# Altium footprint library Connector.PcbLib: 170 footprints (part 5 of 11)
Each footprint in its own frame and in the unit in brackets; x right, y up, seen from the top. Pads: shape width x height; smd on the part's side, far side on the other; paste and mask are expansions set on the pad; w line width, h text height; cw(c..) or ccw(c..) is an arc to the next point about the centre after c.
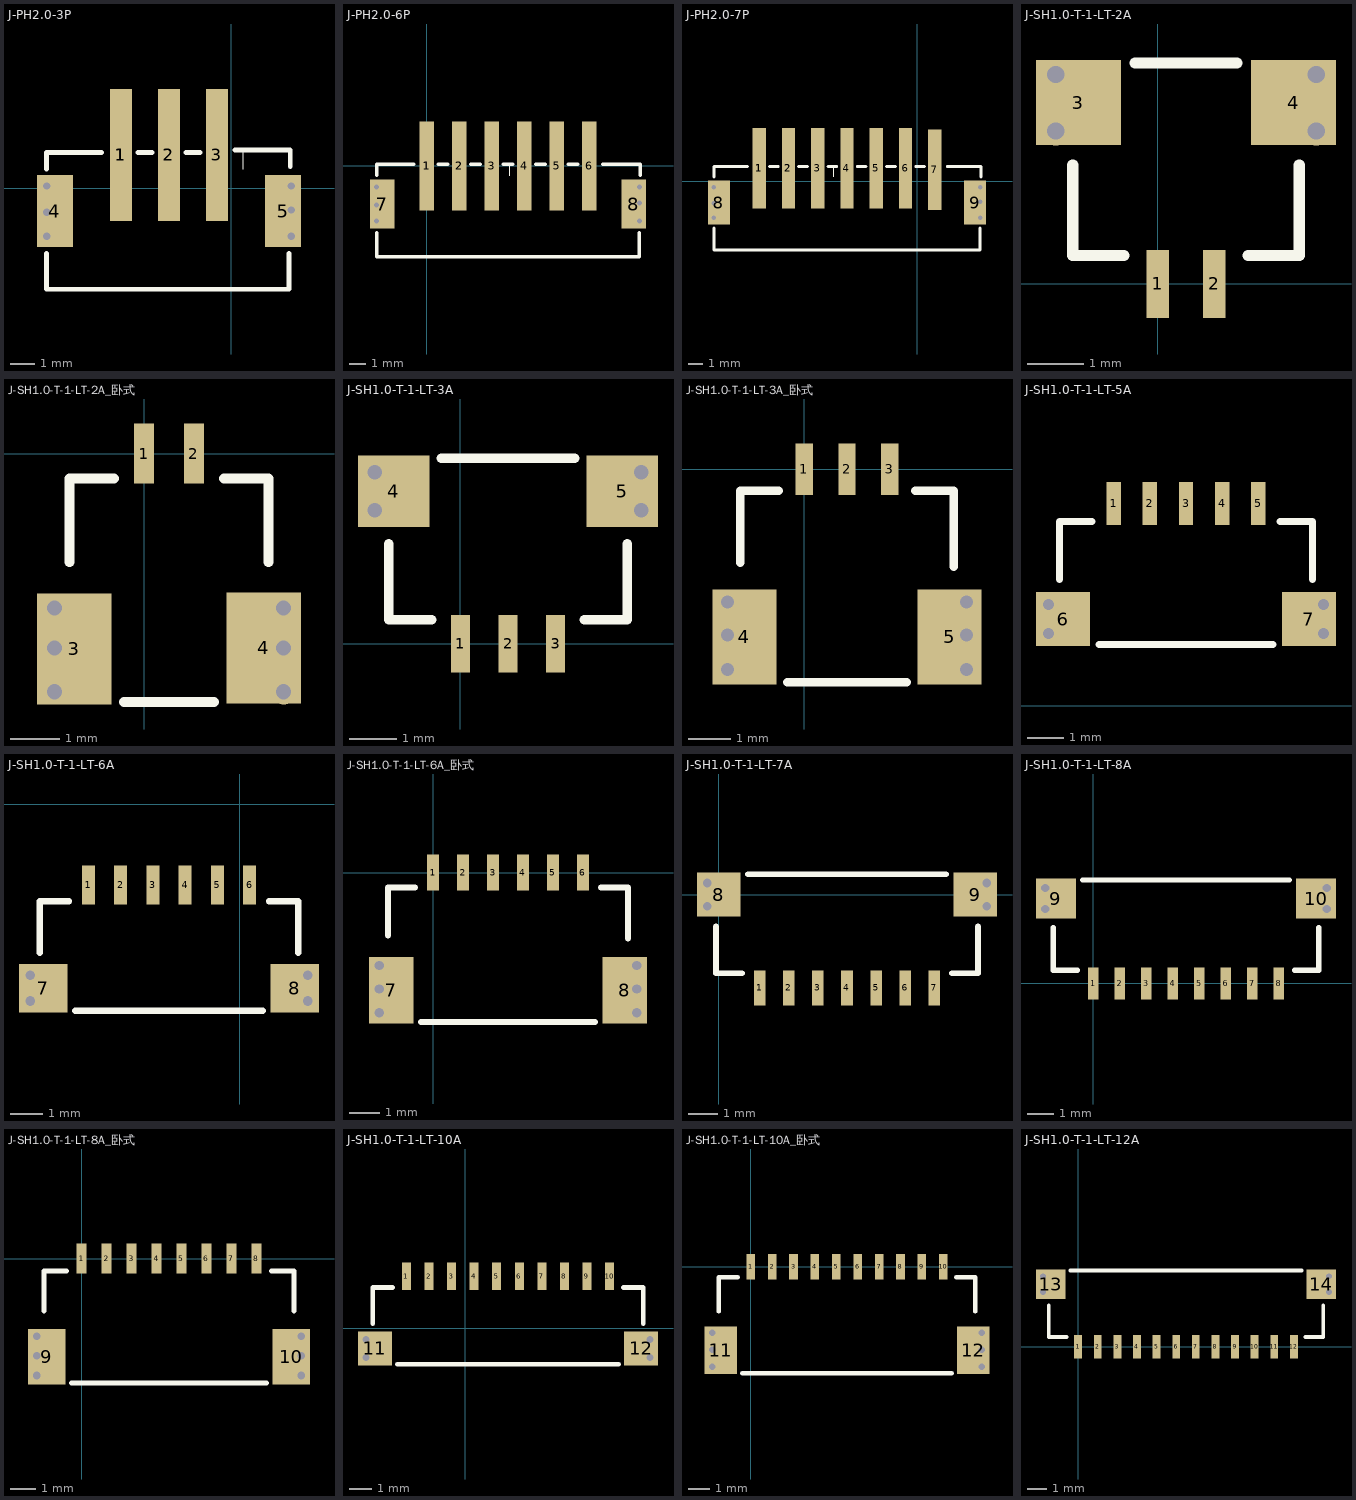
[diagram p4: the footprints below, top view; thin cyan lines are the x and y axes]

## J-PH2.0-3P [mm]
pads (7):
  rect 0.9x5.5 smd: 1(-4.6,1.4) 1(-4.6,1.4) 2(-2.6,1.4) 2(-2.6,1.4) 3(-0.6,1.4)
  rect 1.5x3 smd: 4(-7.35,-0.95) 5(2.15,-0.95)
via 2.5,0.1 diameter 0.508 hole 0.305
via 2.5,-2 diameter 0.508 hole 0.305
via 2.5,-0.9 diameter 0.508 hole 0.305
via -7.7,0.1 diameter 0.508 hole 0.305
via -7.7,-2 diameter 0.508 hole 0.305
via -7.7,-1 diameter 0.508 hole 0.305
Top Overlay:
  lines w0: 0.5,0.8 0.5,1.5
  lines w0.2: -7.7,-2.7 -7.7,-4.2 2.4,-4.2 2.4,-2.7 ; -7.7,0.8 -7.7,1.5 -5.4,1.5 ; -1.9,1.5 -1.3,1.5 ; 0.15,1.6 2.45,1.6 2.45,0.9 ; -3.9,1.5 -3.3,1.5 -3.9,1.5

## J-PH2.0-6P [mm]
pads (10):
  rect 0.9x5.5 smd: 1(0,0) 1(0,0) 2(2,0) 2(2,0) 3(4,0) 4(6,0) 5(8,0) 6(10,0)
  rect 1.5x3 smd: 7(-2.75,-2.35) 8(12.75,-2.35)
via 13.1,-2.3 diameter 0.508 hole 0.305
via 13.1,-1.3 diameter 0.508 hole 0.305
via 13.1,-3.4 diameter 0.508 hole 0.305
via -3.1,-1.3 diameter 0.508 hole 0.305
via -3.1,-3.4 diameter 0.508 hole 0.305
via -3.1,-2.4 diameter 0.508 hole 0.305
Top Overlay:
  lines w0: 5.1,-0.6 5.1,0.1
  lines w0.2: -3.1,-4.1 -3.1,-5.6 13.1,-5.6 13.1,-4.1 ; -3.1,-0.6 -3.1,0.1 -0.8,0.1 ; 2.7,0.1 3.3,0.1 ; 4.7,0.1 5.3,0.1 ; 6.7,0.1 7.3,0.1 ; 8.7,0.1 9.3,0.1 ; 10.85,0.1 13.15,0.1 13.15,-0.6 ; 0.7,0.1 1.3,0.1 0.7,0.1

## J-PH2.0-7P [mm]
pads (11):
  rect 0.9x5.5 smd: 1(-10.8,0.9) 1(-10.8,0.9) 2(-8.8,0.9) 2(-8.8,0.9) 3(-6.8,0.9) 4(-4.8,0.9) 5(-2.8,0.9) 6(-0.8,0.9) 7(1.2,0.8)
  rect 1.5x3 smd: 8(-13.55,-1.45) 9(3.95,-1.45)
via 4.3,-1.4 diameter 0.508 hole 0.305
via 4.3,-0.4 diameter 0.508 hole 0.305
via 4.3,-2.5 diameter 0.508 hole 0.305
via -13.9,-1.5 diameter 0.508 hole 0.305
via -13.9,-2.5 diameter 0.508 hole 0.305
via -13.9,-0.4 diameter 0.508 hole 0.305
Top Overlay:
  lines w0: -5.7,0.3 -5.7,1
  lines w0.2: -13.9,-3.2 -13.9,-4.7 4.3,-4.7 4.3,-3.2 ; -13.9,0.3 -13.9,1 -11.6,1 ; -8.1,1 -7.5,1 ; -6.1,1 -5.5,1 ; -4.1,1 -3.5,1 ; -2.1,1 -1.5,1 ; -0.1,1 0.5,1 ; 2.05,1 4.35,1 4.35,0.3 ; -10.1,1 -9.5,1 -10.1,1

## J-SH1.0-T-1-LT-2A [mm]
pads (4):
  rect 0.4x1.2 smd: 1(0,0) 2(1,0)
  rect 1.5x1.5 smd: 3(-1.4,3.2) 4(2.4,3.2)
via -1.8,2.7 diameter 0.508 hole 0.305
via -1.8,3.7 diameter 0.508 hole 0.305
via 2.8,3.7 diameter 0.508 hole 0.305
via 2.8,2.7 diameter 0.508 hole 0.305
Top Overlay:
  lines w0.2: -1.5,2.1 -1.5,0.5 -0.6,0.5 ; -0.4,3.9 1.4,3.9 ; 1.6,0.5 2.5,0.5 2.5,2.1

## J-SH1.0-T-1-LT-2A_卧式 [mm]
pads (4):
  rect 0.4x1.2 smd: 1(0,0) 2(1,0)
  rect 1.5x2.22 smd: 3(-1.4,-3.92) 4(2.4,-3.9)
via 2.8,-4.78 diameter 0.508 hole 0.305
via -1.8,-4.78 diameter 0.508 hole 0.305
via -1.8,-3.1 diameter 0.508 hole 0.305
via 2.8,-3.1 diameter 0.508 hole 0.305
via -1.8,-3.9 diameter 0.508 hole 0.305
via 2.8,-3.9 diameter 0.508 hole 0.305
Top Overlay:
  lines w0.2: -1.5,-2.18 -1.5,-0.5 -0.6,-0.5 ; -0.4,-4.98 1.4,-4.98 ; 1.6,-0.5 2.5,-0.5 2.5,-2.18
3D body: height 3.05, standoff 0, extent -1.5,-4.9 2.5,-0.5

## J-SH1.0-T-1-LT-3A [mm]
pads (5):
  rect 0.4x1.2 smd: 1(0,0) 2(1,0) 3(2,0)
  rect 1.5x1.5 smd: 4(-1.4,3.2) 5(3.4,3.2)
via 3.8,2.8 diameter 0.508 hole 0.305
via 3.8,3.6 diameter 0.508 hole 0.305
via -1.8,2.8 diameter 0.508 hole 0.305
via -1.8,3.6 diameter 0.508 hole 0.305
Top Overlay:
  lines w0.2: -1.5,2.1 -1.5,0.5 -0.6,0.5 ; -0.4,3.9 2.4,3.9 ; 2.6,0.5 3.5,0.5 3.5,2.1

## J-SH1.0-T-1-LT-3A_卧式 [mm]
pads (5):
  rect 0.4x1.2 smd: 1(0,0) 2(1,0) 3(2,0)
  rect 1.5x2.22 smd: 4(-1.4,-3.92) 5(3.4,-3.92)
via 3.8,-3.1 diameter 0.508 hole 0.305
via -1.8,-3.1 diameter 0.508 hole 0.305
via -1.8,-4.68 diameter 0.508 hole 0.305
via -1.8,-3.88 diameter 0.508 hole 0.305
via 3.8,-4.68 diameter 0.508 hole 0.305
via 3.8,-3.88 diameter 0.508 hole 0.305
Top Overlay:
  lines w0.2: -1.5,-2.18 -1.5,-0.5 -0.6,-0.5 ; -0.4,-4.98 2.4,-4.98 ; 2.6,-0.5 3.5,-0.5 3.5,-2.28

## J-SH1.0-T-1-LT-5A [mm] "J-SH1.0-T-1-LT-5A"
pads (7):
  rect 0.4x1.2 smd: 1(4.3,5.6) 2(5.3,5.6) 3(6.3,5.6) 4(7.3,5.6) 5(8.3,5.6)
  rect 1.5x1.5 smd: 6(2.9,2.4) 7(9.7,2.4)
via 10.1,2 diameter 0.508 hole 0.305
via 10.1,2.8 diameter 0.508 hole 0.305
via 2.5,2 diameter 0.508 hole 0.305
via 2.5,2.8 diameter 0.508 hole 0.305
Top Overlay:
  lines w0.2: 2.8,3.5 2.8,5.1 3.7,5.1 ; 3.9,1.7 8.7,1.7 ; 8.9,5.1 9.8,5.1 9.8,3.5

## J-SH1.0-T-1-LT-6A [mm] "J-SH1.0-T-1-LT-8A"
pads (8):
  rect 0.4x1.2 smd: 1(-4.7,-2.5) 2(-3.7,-2.5) 3(-2.7,-2.5) 4(-1.7,-2.5) 5(-0.7,-2.5) 6(0.3,-2.5)
  rect 1.5x1.5 smd: 7(-6.1,-5.7) 8(1.7,-5.7)
via 2.1,-5.3 diameter 0.508 hole 0.305
via 2.1,-6.1 diameter 0.508 hole 0.305
via -6.5,-5.3 diameter 0.508 hole 0.305
via -6.5,-6.1 diameter 0.508 hole 0.305
Top Overlay:
  lines w0.2: -6.2,-4.6 -6.2,-3 -5.3,-3 ; -5.1,-6.4 0.7,-6.4 ; 0.9,-3 1.8,-3 1.8,-4.6

## J-SH1.0-T-1-LT-6A_卧式 [mm]
pads (8):
  rect 0.4x1.2 smd: 1(0,0) 2(1,0) 3(2,0) 4(3,0) 5(4,0) 6(5,0)
  rect 1.5x2.22 smd: 7(-1.4,-3.92) 8(6.4,-3.92)
via 6.8,-3.1 diameter 0.508 hole 0.305
via -1.8,-3.1 diameter 0.508 hole 0.305
via 6.8,-3.88 diameter 0.508 hole 0.305
via 6.8,-4.68 diameter 0.508 hole 0.305
via -1.8,-3.88 diameter 0.508 hole 0.305
via -1.8,-4.68 diameter 0.508 hole 0.305
Top Overlay:
  lines w0.2: -1.5,-2.1 -1.5,-0.5 -0.6,-0.5 ; -0.4,-4.98 5.4,-4.98 ; 5.6,-0.5 6.5,-0.5 6.5,-2.2

## J-SH1.0-T-1-LT-7A [mm] "Touch调试模块引出"
pads (9):
  rect 0.4x1.2 smd: 1(1.4,-3.2) 2(2.4,-3.2) 3(3.4,-3.2) 4(4.4,-3.2) 5(5.4,-3.2) 6(6.4,-3.2) 7(7.4,-3.2)
  rect 1.5x1.5 smd: 8(0,0) 9(8.8,0)
via -0.4,-0.4 diameter 0.508 hole 0.305
via -0.4,0.4 diameter 0.508 hole 0.305
via 9.2,0.4 diameter 0.508 hole 0.305
via 9.2,-0.4 diameter 0.508 hole 0.305
Top Overlay:
  lines w0.2: -0.1,-1.1 -0.1,-2.7 0.8,-2.7 ; 1,0.7 7.8,0.7 ; 8,-2.7 8.9,-2.7 8.9,-1.1

## J-SH1.0-T-1-LT-8A [mm]
pads (10):
  rect 0.4x1.2 smd: 1(0,0) 2(1,0) 3(2,0) 4(3,0) 5(4,0) 6(5,0) 7(6,0) 8(7,0)
  rect 1.5x1.5 smd: 9(-1.4,3.2) 10(8.4,3.2)
via 8.8,2.8 diameter 0.508 hole 0.305
via 8.8,3.6 diameter 0.508 hole 0.305
via -1.8,2.8 diameter 0.508 hole 0.305
via -1.8,3.6 diameter 0.508 hole 0.305
Top Overlay:
  lines w0.2: -1.5,2.1 -1.5,0.5 -0.6,0.5 ; -0.4,3.9 7.4,3.9 ; 7.6,0.5 8.5,0.5 8.5,2.1

## J-SH1.0-T-1-LT-8A_卧式 [mm]
pads (10):
  rect 0.4x1.2 smd: 1(0,0) 2(1,0) 3(2,0) 4(3,0) 5(4,0) 6(5,0) 7(6,0) 8(7,0)
  rect 1.5x2.22 smd: 9(-1.4,-3.92) 10(8.4,-3.92)
via 8.8,-3.88 diameter 0.508 hole 0.305
via 8.8,-4.68 diameter 0.508 hole 0.305
via -1.8,-3.88 diameter 0.508 hole 0.305
via -1.8,-4.68 diameter 0.508 hole 0.305
via -1.8,-3.1 diameter 0.508 hole 0.305
via 8.8,-3.1 diameter 0.508 hole 0.305
Top Overlay:
  lines w0.2: -1.5,-2.1 -1.5,-0.5 -0.6,-0.5 ; -0.4,-4.98 7.4,-4.98 ; 7.6,-0.5 8.5,-0.5 8.5,-2.1

## J-SH1.0-T-1-LT-10A [mm] "接插件SH1.0-T-1-LT-10A，A33TF卡槽"
pads (12):
  rect 0.4x1.2 smd: 1(-2.6,2.3) 2(-1.6,2.3) 3(-0.6,2.3) 4(0.4,2.3) 5(1.4,2.3) 6(2.4,2.3) 7(3.4,2.3) 8(4.4,2.3) 9(5.4,2.3) 10(6.4,2.3)
  rect 1.5x1.5 smd: 11(-4,-0.9) 12(7.8,-0.9)
via -4.4,-1.3 diameter 0.508 hole 0.305
via -4.4,-0.5 diameter 0.508 hole 0.305
via 8.2,-0.5 diameter 0.508 hole 0.305
via 8.2,-1.3 diameter 0.508 hole 0.305
Top Overlay:
  lines w0.2: -4.1,0.2 -4.1,1.8 -3.2,1.8 ; -3,-1.6 6.8,-1.6 ; 7,1.8 7.9,1.8 7.9,0.2

## J-SH1.0-T-1-LT-10A_卧式 [mm]
pads (12):
  rect 0.4x1.2 smd: 1(0,0) 2(1,0) 3(2,0) 4(3,0) 5(4,0) 6(5,0) 7(6,0) 8(7,0) 9(8,0) 10(9,0)
  rect 1.5x2.22 smd: 11(-1.4,-3.92) 12(10.4,-3.92)
via 10.8,-3.1 diameter 0.508 hole 0.305
via -1.8,-3.1 diameter 0.508 hole 0.305
via -1.8,-4.68 diameter 0.508 hole 0.305
via -1.8,-3.88 diameter 0.508 hole 0.305
via 10.8,-3.88 diameter 0.508 hole 0.305
via 10.8,-4.68 diameter 0.508 hole 0.305
Top Overlay:
  lines w0.2: -1.5,-2.1 -1.5,-0.5 -0.6,-0.5 ; -0.4,-4.98 9.4,-4.98 ; 9.6,-0.5 10.5,-0.5 10.5,-2.1

## J-SH1.0-T-1-LT-12A [mm]
pads (14):
  rect 0.4x1.2 smd: 1(0,0) 2(1,0) 3(2,0) 4(3,0) 5(4,0) 6(5,0) 7(6,0) 8(7,0) 9(8,0) 10(9,0) 11(10,0) 12(11,0)
  rect 1.5x1.5 smd: 13(-1.4,3.2) 14(12.4,3.2)
via 12.8,2.8 diameter 0.508 hole 0.305
via 12.8,3.6 diameter 0.508 hole 0.305
via -1.8,2.8 diameter 0.508 hole 0.305
via -1.8,3.6 diameter 0.508 hole 0.305
Top Overlay:
  lines w0.2: -1.5,2.1 -1.5,0.5 -0.6,0.5 ; -0.4,3.9 11.4,3.9 ; 11.6,0.5 12.5,0.5 12.5,2.1